# EAGLE library part 649018221732 (library Wire-to-Board (rev18a))
WR-MPC4 4.20mm Male Dual Row Vertical Header with Mounting Pegs, 18 Pins=>Code : Con_WTB_MPC4_2_PCB_649018221732 <http://katalog.we-online.de/media/thumbs2/eican/thb_Con_WTB_MPC4_2_PCB_6490xx221732_pf2.jpg> Details see: http://katalog.we-online.de/en/em/MPC4_4_20_MALE_DUAL_ROW_VERTICAL_HEADER_W_MOUNTING_PEGS_6490XX221732 Created 2014-06-06, Karrer Zheng 2014 (C) Würth Elektronik
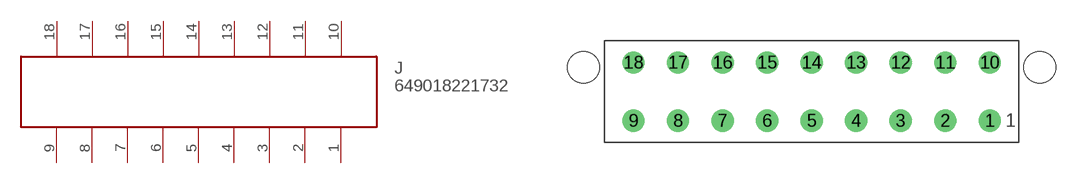
[diagram p307: symbol with the pads of 649018221732; footprint 649018221732]

Designator prefix J

## 649018221732  [649018221732]
1  1
2  2
3  3
4  4
5  5
6  6
7  7
8  8
9  9
10  10
11  11
12  12
13  13
14  14
15  15
16  16
17  17
18  18

## Footprint 649018221732 (pad centres in mm)
WR-MPC4 4.20mm Male Dual Row Vertical Header with Mounting Pegs, 18 Pins
drill 1.4: 1 16.8,-2.75; 2 12.6,-2.75; 3 8.4,-2.75; 4 4.2,-2.75; 5 0,-2.75; 6 -4.2,-2.75; 7 -8.4,-2.75; 8 -12.6,-2.75; 9 -16.8,-2.75; 10 16.8,2.75; 11 12.6,2.75; 12 8.4,2.75; 13 4.2,2.75; 14 0,2.75; 15 -4.2,2.75; 16 -8.4,2.75; 17 -12.6,2.75; 18 -16.8,2.75
hole 3 at -21.5,2.29
hole 3 at 21.5,2.29